# Altium integrated library MB10S.IntLib: 1 symbol
Pins are listed as number, name and electrical type; pins without a type are passive.

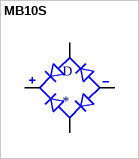
[diagram p0: symbol MB10S]

## MB10S
designator D
Bridge Rectifier Single Phase Standard 1kV Surface Mount 4-SOIC; MP: MB10S; MF: ON Semiconductor; Package: SOIC-4 ON Semiconductor; Digi-Key_Purchase_URL: https://www.digikey.com/product-detail/en/on-semiconductor/MB10S/MB10SCT-ND/2444921?utm_source=snapeda&utm_medium=aggregator&utm_campaign=symbol; Digi-Key_Part_Number: MB10SCT-ND; SnapEDA_Link: https://www.snapeda.com/parts/MB10S/ON%20Semiconductor/view-part/1686091/?ref=snap; Value: *
footprint SOIC245P670X290-4N
pins: 1 POS, 2 NEG, 3 AC2, 4 AC1